# Altium schematic symbol library LLAVE_PALANCA.SchLib: 1 symbol
Pins are listed as number, name and electrical type; pins without a type are passive.

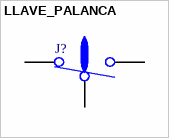
[diagram p0: symbol LLAVE_PALANCA]

## LLAVE_PALANCA
designator J?
LLAVE_PALANCA
pins: 1 NC, 2 C, 3 NA